# Altium footprint library Renesas Logic.PcbLib: 85 footprints (part 4 of 6)
Each footprint in its own frame and in the unit in brackets; x right, y up, seen from the top. Pads: shape width x height; smd on the part's side, far side on the other; paste and mask are expansions set on the pad; w line width, h text height; cw(c..) or ccw(c..) is an arc to the next point about the centre after c.
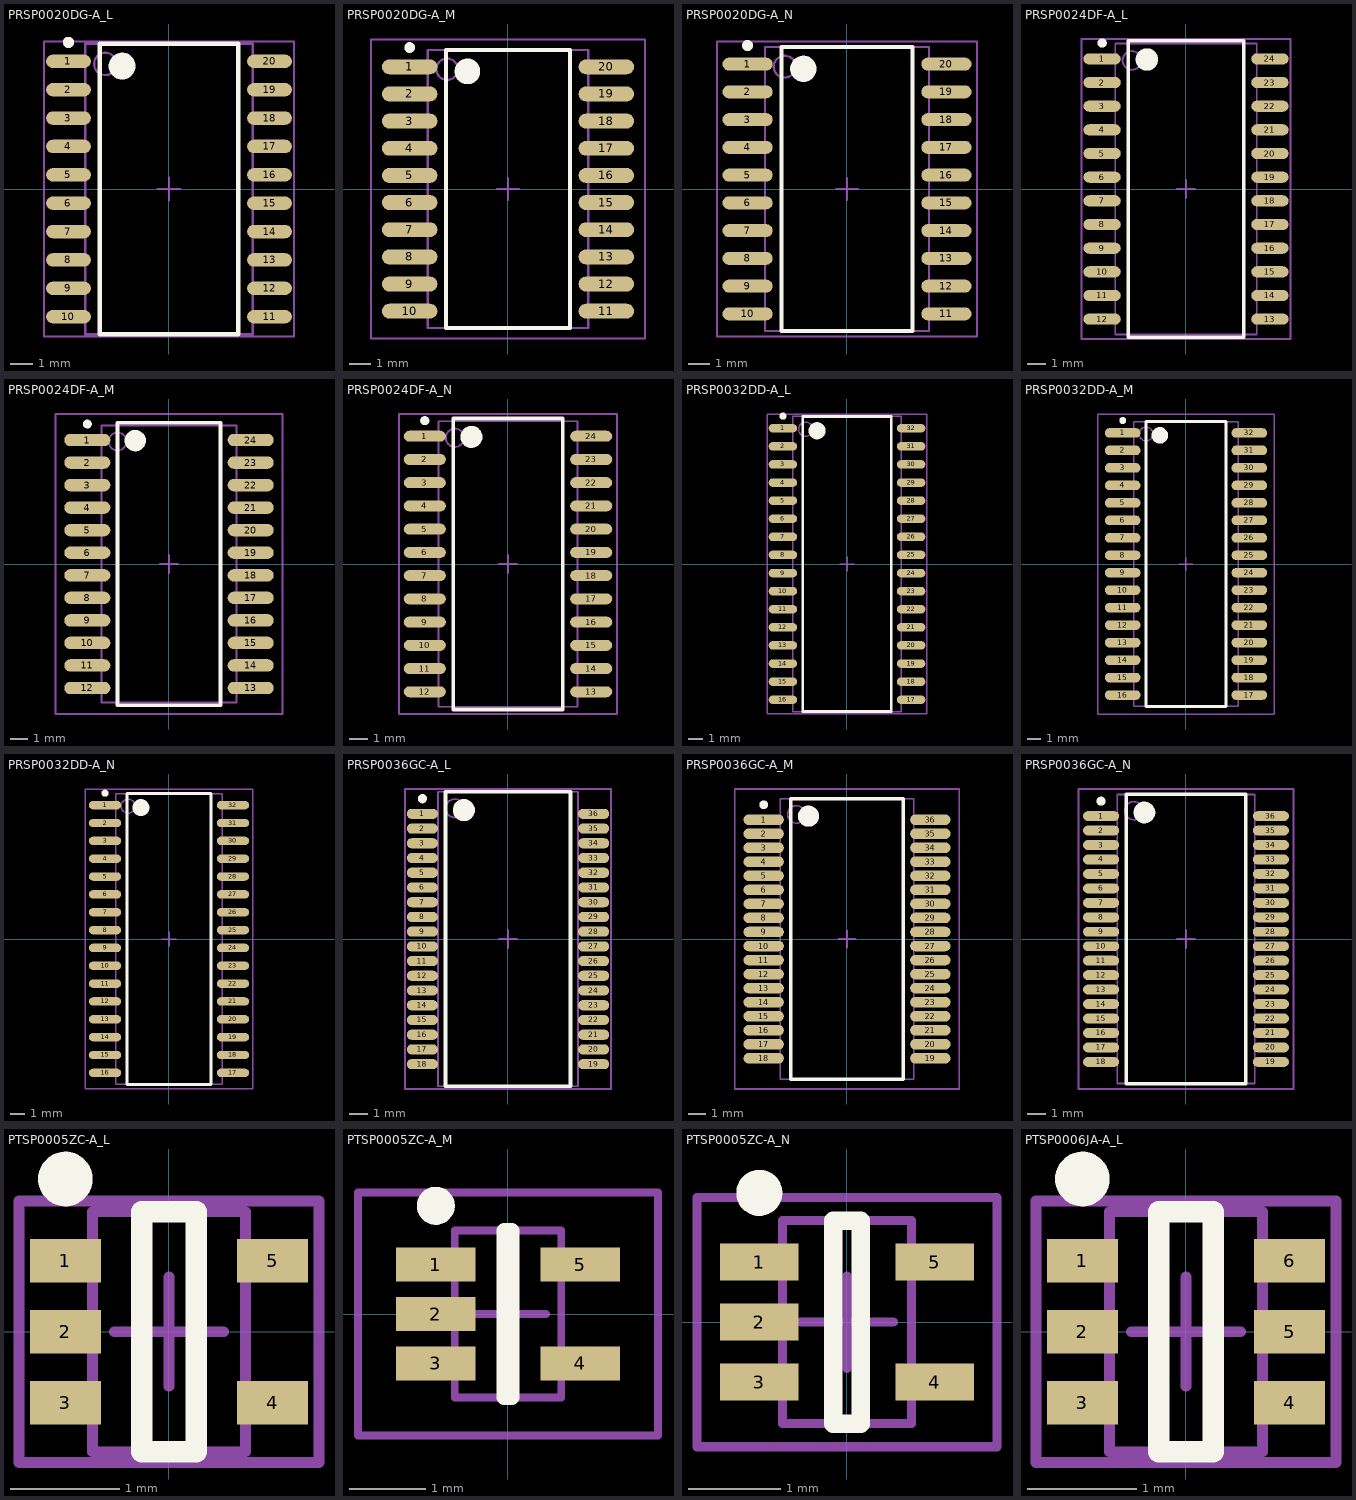
[diagram p3: the footprints below, top view; thin cyan lines are the x and y axes]

## PRSP0020DG-A_L [mm] "SOIC, 20-Leads, Body 12.8x7.5mm, Pitch 1.27mm, IPC High Density"
height 2.65
pads (20):
  oval 2x0.6 smd: 1(-4.5,5.715) 2(-4.5,4.445) 3(-4.5,3.175) 4(-4.5,1.905) 5(-4.5,0.635) 6(-4.5,-0.635) 7(-4.5,-1.905) 8(-4.5,-3.175) 9(-4.5,-4.445) 10(-4.5,-5.715) 11(4.5,-5.715) 12(4.5,-4.445) 13(4.5,-3.175) 14(4.5,-1.905) 15(4.5,-0.635) 16(4.5,0.635) 17(4.5,1.905) 18(4.5,3.175) 19(4.5,4.445) 20(4.5,5.715)
Top Overlay:
  circle w0.25: c-4.5,6.565 r0.125
  circle w0.6: c-2.1,5.5 r0.3
  lines w0.2: -3.1,-6.5 -3.1,6.5 3.1,6.5 3.1,-6.5 -3.1,-6.5
Mechanical 13:
  circle w0.1: c-2.85,5.6 r0.5
  lines w0.1: -3.75,-6.5 -3.75,6.5 3.75,6.5 3.75,-6.5 -3.75,-6.5
Mechanical 15:
  lines w0.1: -0.5,0 0.5,0 ; 0,-0.5 0,0.5 ; -5.6,-6.6 -5.6,6.6 5.6,6.6 5.6,-6.6 -5.6,-6.6
3D body: height 2.65, standoff 0, extent -3.75,-6.5 3.75,6.5

## PRSP0020DG-A_M [mm] "SOIC, 20-Leads, Body 12.8x7.5mm, Pitch 1.27mm, IPC Low Density"
height 2.65
pads (20):
  oval 2.6x0.7 smd: 1(-4.6,5.715) 2(-4.6,4.445) 3(-4.6,3.175) 4(-4.6,1.905) 5(-4.6,0.635) 6(-4.6,-0.635) 7(-4.6,-1.905) 8(-4.6,-3.175) 9(-4.6,-4.445) 10(-4.6,-5.715) 11(4.6,-5.715) 12(4.6,-4.445) 13(4.6,-3.175) 14(4.6,-1.905) 15(4.6,-0.635) 16(4.6,0.635) 17(4.6,1.905) 18(4.6,3.175) 19(4.6,4.445) 20(4.6,5.715)
Top Overlay:
  circle w0.25: c-4.6,6.615 r0.125
  circle w0.6: c-1.9,5.5 r0.3
  lines w0.2: -2.9,-6.5 -2.9,6.5 2.9,6.5 2.9,-6.5 -2.9,-6.5
Mechanical 13:
  circle w0.1: c-2.85,5.6 r0.5
  lines w0.1: -3.75,-6.5 -3.75,6.5 3.75,6.5 3.75,-6.5 -3.75,-6.5
Mechanical 15:
  lines w0.1: -0.5,0 0.5,0 ; 0,-0.5 0,0.5 ; -6.4,-7 -6.4,7 6.4,7 6.4,-7 -6.4,-7
3D body: height 2.65, standoff 0, extent -3.75,-6.5 3.75,6.5

## PRSP0020DG-A_N [mm] "SOIC, 20-Leads, Body 12.8x7.5mm, Pitch 1.27mm, IPC Medium Density"
height 2.65
pads (20):
  oval 2.3x0.6 smd: 1(-4.55,5.715) 2(-4.55,4.445) 3(-4.55,3.175) 4(-4.55,1.905) 5(-4.55,0.635) 6(-4.55,-0.635) 7(-4.55,-1.905) 8(-4.55,-3.175) 9(-4.55,-4.445) 10(-4.55,-5.715) 11(4.55,-5.715) 12(4.55,-4.445) 13(4.55,-3.175) 14(4.55,-1.905) 15(4.55,-0.635) 16(4.55,0.635) 17(4.55,1.905) 18(4.55,3.175) 19(4.55,4.445) 20(4.55,5.715)
Top Overlay:
  circle w0.25: c-4.55,6.565 r0.125
  circle w0.6: c-2,5.5 r0.3
  lines w0.2: -3,-6.5 -3,6.5 3,6.5 3,-6.5 -3,-6.5
Mechanical 13:
  circle w0.1: c-2.85,5.6 r0.5
  lines w0.1: -3.75,-6.5 -3.75,6.5 3.75,6.5 3.75,-6.5 -3.75,-6.5
Mechanical 15:
  lines w0.1: -0.5,0 0.5,0 ; 0,-0.5 0,0.5 ; -5.95,-6.75 -5.95,6.75 5.95,6.75 5.95,-6.75 -5.95,-6.75
3D body: height 2.65, standoff 0, extent -3.75,-6.5 3.75,6.5

## PRSP0024DF-A_L [mm] "SOIC, 24-Leads, Body 15.4x7.5mm, Pitch 1.27mm, IPC High Density"
height 2.65
pads (24):
  oval 2x0.6 smd: 1(-4.5,6.985) 2(-4.5,5.715) 3(-4.5,4.445) 4(-4.5,3.175) 5(-4.5,1.905) 6(-4.5,0.635) 7(-4.5,-0.635) 8(-4.5,-1.905) 9(-4.5,-3.175) 10(-4.5,-4.445) 11(-4.5,-5.715) 12(-4.5,-6.985) 13(4.5,-6.985) 14(4.5,-5.715) 15(4.5,-4.445) 16(4.5,-3.175) 17(4.5,-1.905) 18(4.5,-0.635) 19(4.5,0.635) 20(4.5,1.905) 21(4.5,3.175) 22(4.5,4.445) 23(4.5,5.715) 24(4.5,6.985)
Top Overlay:
  circle w0.25: c-4.5,7.835 r0.125
  circle w0.6: c-2.1,6.95 r0.3
  lines w0.2: -3.1,-7.95 -3.1,7.95 3.1,7.95 3.1,-7.95 -3.1,-7.95
Mechanical 13:
  circle w0.1: c-2.9,6.9 r0.5
  lines w0.1: -3.8,-7.8 -3.8,7.8 3.8,7.8 3.8,-7.8 -3.8,-7.8
Mechanical 15:
  lines w0.1: -0.5,0 0.5,0 ; 0,-0.5 0,0.5 ; -5.6,-8.05 -5.6,8.05 5.6,8.05 5.6,-8.05 -5.6,-8.05
3D body: height 2.65, standoff 0, extent -3.8,-7.8 3.8,7.8

## PRSP0024DF-A_M [mm] "SOIC, 24-Leads, Body 15.4x7.5mm, Pitch 1.27mm, IPC Low Density"
height 2.65
pads (24):
  oval 2.6x0.7 smd: 1(-4.6,6.985) 2(-4.6,5.715) 3(-4.6,4.445) 4(-4.6,3.175) 5(-4.6,1.905) 6(-4.6,0.635) 7(-4.6,-0.635) 8(-4.6,-1.905) 9(-4.6,-3.175) 10(-4.6,-4.445) 11(-4.6,-5.715) 12(-4.6,-6.985) 13(4.6,-6.985) 14(4.6,-5.715) 15(4.6,-4.445) 16(4.6,-3.175) 17(4.6,-1.905) 18(4.6,-0.635) 19(4.6,0.635) 20(4.6,1.905) 21(4.6,3.175) 22(4.6,4.445) 23(4.6,5.715) 24(4.6,6.985)
Top Overlay:
  circle w0.25: c-4.6,7.885 r0.125
  circle w0.6: c-1.9,6.95 r0.3
  lines w0.2: -2.9,-7.95 -2.9,7.95 2.9,7.95 2.9,-7.95 -2.9,-7.95
Mechanical 13:
  circle w0.1: c-2.9,6.9 r0.5
  lines w0.1: -3.8,-7.8 -3.8,7.8 3.8,7.8 3.8,-7.8 -3.8,-7.8
Mechanical 15:
  lines w0.1: -0.5,0 0.5,0 ; 0,-0.5 0,0.5 ; -6.4,-8.45 -6.4,8.45 6.4,8.45 6.4,-8.45 -6.4,-8.45
3D body: height 2.65, standoff 0, extent -3.8,-7.8 3.8,7.8

## PRSP0024DF-A_N [mm] "SOIC, 24-Leads, Body 15.4x7.5mm, Pitch 1.27mm, IPC Medium Density"
height 2.65
pads (24):
  oval 2.3x0.6 smd: 1(-4.55,6.985) 2(-4.55,5.715) 3(-4.55,4.445) 4(-4.55,3.175) 5(-4.55,1.905) 6(-4.55,0.635) 7(-4.55,-0.635) 8(-4.55,-1.905) 9(-4.55,-3.175) 10(-4.55,-4.445) 11(-4.55,-5.715) 12(-4.55,-6.985) 13(4.55,-6.985) 14(4.55,-5.715) 15(4.55,-4.445) 16(4.55,-3.175) 17(4.55,-1.905) 18(4.55,-0.635) 19(4.55,0.635) 20(4.55,1.905) 21(4.55,3.175) 22(4.55,4.445) 23(4.55,5.715) 24(4.55,6.985)
Top Overlay:
  circle w0.25: c-4.55,7.835 r0.125
  circle w0.6: c-2,6.95 r0.3
  lines w0.2: -3,-7.95 -3,7.95 3,7.95 3,-7.95 -3,-7.95
Mechanical 13:
  circle w0.1: c-2.9,6.9 r0.5
  lines w0.1: -3.8,-7.8 -3.8,7.8 3.8,7.8 3.8,-7.8 -3.8,-7.8
Mechanical 15:
  lines w0.1: -0.5,0 0.5,0 ; 0,-0.5 0,0.5 ; -5.95,-8.2 -5.95,8.2 5.95,8.2 5.95,-8.2 -5.95,-8.2
3D body: height 2.65, standoff 0, extent -3.8,-7.8 3.8,7.8

## PRSP0032DD-A_L [mm] "SOIC, 32-Leads, Body 20.5x7.5mm, Pitch 1.27mm, IPC High Density"
height 2.7
pads (32):
  oval 2x0.6 smd: 1(-4.5,9.525) 2(-4.5,8.255) 3(-4.5,6.985) 4(-4.5,5.715) 5(-4.5,4.445) 6(-4.5,3.175) 7(-4.5,1.905) 8(-4.5,0.635) 9(-4.5,-0.635) 10(-4.5,-1.905) 11(-4.5,-3.175) 12(-4.5,-4.445) 13(-4.5,-5.715) 14(-4.5,-6.985) 15(-4.5,-8.255) 16(-4.5,-9.525) 17(4.5,-9.525) 18(4.5,-8.255) 19(4.5,-6.985) 20(4.5,-5.715) 21(4.5,-4.445) 22(4.5,-3.175) 23(4.5,-1.905) 24(4.5,-0.635) 25(4.5,0.635) 26(4.5,1.905) 27(4.5,3.175) 28(4.5,4.445) 29(4.5,5.715) 30(4.5,6.985) 31(4.5,8.255) 32(4.5,9.525)
Top Overlay:
  circle w0.6: c-2.1,9.35 r0.3
  circle w0.25: c-4.5,10.375 r0.125
  lines w0.2: -3.1,-10.35 3.1,-10.35 3.1,10.35 -3.1,10.35 -3.1,-10.35
Mechanical 13:
  circle w0.1: c-2.9,9.45 r0.5
  lines w0.1: -3.8,-10.35 3.8,-10.35 3.8,10.35 -3.8,10.35 -3.8,-10.35
Mechanical 15:
  lines w0.1: -0.5,0 0.5,0 ; 0,-0.5 0,0.5 ; -5.6,-10.5 5.6,-10.5 5.6,10.5 -5.6,10.5 -5.6,-10.5
3D body: height 2.7, standoff 0.1, extent -3.8,-10.35 3.8,10.35

## PRSP0032DD-A_M [mm] "SOIC, 32-Leads, Body 20.5x7.5mm, Pitch 1.27mm, IPC Low Density"
height 2.7
pads (32):
  oval 2.6x0.7 smd: 1(-4.6,9.525) 2(-4.6,8.255) 3(-4.6,6.985) 4(-4.6,5.715) 5(-4.6,4.445) 6(-4.6,3.175) 7(-4.6,1.905) 8(-4.6,0.635) 9(-4.6,-0.635) 10(-4.6,-1.905) 11(-4.6,-3.175) 12(-4.6,-4.445) 13(-4.6,-5.715) 14(-4.6,-6.985) 15(-4.6,-8.255) 16(-4.6,-9.525) 17(4.6,-9.525) 18(4.6,-8.255) 19(4.6,-6.985) 20(4.6,-5.715) 21(4.6,-4.445) 22(4.6,-3.175) 23(4.6,-1.905) 24(4.6,-0.635) 25(4.6,0.635) 26(4.6,1.905) 27(4.6,3.175) 28(4.6,4.445) 29(4.6,5.715) 30(4.6,6.985) 31(4.6,8.255) 32(4.6,9.525)
Top Overlay:
  circle w0.6: c-1.9,9.35 r0.3
  circle w0.25: c-4.6,10.425 r0.125
  lines w0.2: -2.9,-10.35 2.9,-10.35 2.9,10.35 -2.9,10.35 -2.9,-10.35
Mechanical 13:
  circle w0.1: c-2.9,9.45 r0.5
  lines w0.1: -3.8,-10.35 3.8,-10.35 3.8,10.35 -3.8,10.35 -3.8,-10.35
Mechanical 15:
  lines w0.1: -0.5,0 0.5,0 ; 0,-0.5 0,0.5 ; -6.4,-10.9 6.4,-10.9 6.4,10.9 -6.4,10.9 -6.4,-10.9
3D body: height 2.7, standoff 0.1, extent -3.8,-10.35 3.8,10.35

## PRSP0032DD-A_N [mm] "SOIC, 32-Leads, Body 20.5x7.5mm, Pitch 1.27mm, IPC Medium Density"
height 2.7
pads (32):
  oval 2.3x0.6 smd: 1(-4.55,9.525) 2(-4.55,8.255) 3(-4.55,6.985) 4(-4.55,5.715) 5(-4.55,4.445) 6(-4.55,3.175) 7(-4.55,1.905) 8(-4.55,0.635) 9(-4.55,-0.635) 10(-4.55,-1.905) 11(-4.55,-3.175) 12(-4.55,-4.445) 13(-4.55,-5.715) 14(-4.55,-6.985) 15(-4.55,-8.255) 16(-4.55,-9.525) 17(4.55,-9.525) 18(4.55,-8.255) 19(4.55,-6.985) 20(4.55,-5.715) 21(4.55,-4.445) 22(4.55,-3.175) 23(4.55,-1.905) 24(4.55,-0.635) 25(4.55,0.635) 26(4.55,1.905) 27(4.55,3.175) 28(4.55,4.445) 29(4.55,5.715) 30(4.55,6.985) 31(4.55,8.255) 32(4.55,9.525)
Top Overlay:
  circle w0.6: c-2,9.35 r0.3
  circle w0.25: c-4.55,10.375 r0.125
  lines w0.2: -3,-10.35 3,-10.35 3,10.35 -3,10.35 -3,-10.35
Mechanical 13:
  circle w0.1: c-2.9,9.45 r0.5
  lines w0.1: -3.8,-10.35 3.8,-10.35 3.8,10.35 -3.8,10.35 -3.8,-10.35
Mechanical 15:
  lines w0.1: -0.5,0 0.5,0 ; 0,-0.5 0,0.5 ; -5.95,-10.65 5.95,-10.65 5.95,10.65 -5.95,10.65 -5.95,-10.65
3D body: height 2.7, standoff 0.1, extent -3.8,-10.35 3.8,10.35

## PRSP0036GC-A_L [mm] "SOP, 36-Leads, Body 15.88x7.49mm, Pitch 0.8mm, IPC High Density"
height 2.79
pads (36):
  oval 1.7x0.55 smd: 1(-4.65,6.8) 2(-4.65,6) 3(-4.65,5.2) 4(-4.65,4.4) 5(-4.65,3.6) 6(-4.65,2.8) 7(-4.65,2) 8(-4.65,1.2) 9(-4.65,0.4) 10(-4.65,-0.4) 11(-4.65,-1.2) 12(-4.65,-2) 13(-4.65,-2.8) 14(-4.65,-3.6) 15(-4.65,-4.4) 16(-4.65,-5.2) 17(-4.65,-6) 18(-4.65,-6.8) 19(4.65,-6.8) 20(4.65,-6) 21(4.65,-5.2) 22(4.65,-4.4) 23(4.65,-3.6) 24(4.65,-2.8) 25(4.65,-2) 26(4.65,-1.2) 27(4.65,-0.4) 28(4.65,0.4) 29(4.65,1.2) 30(4.65,2) 31(4.65,2.8) 32(4.65,3.6) 33(4.65,4.4) 34(4.65,5.2) 35(4.65,6) 36(4.65,6.8)
Top Overlay:
  circle w0.6: c-2.4,7 r0.3
  circle w0.25: c-4.65,7.625 r0.125
  lines w0.2: -3.4,-8 3.4,-8 3.4,8 -3.4,8 -3.4,-8
Mechanical 13:
  circle w0.1: c-2.885,7.1 r0.5
  lines w0.1: -3.8,-8 3.8,-8 3.8,8 -3.8,8 -3.8,-8
Mechanical 15:
  lines w0.1: -0.5,0 0.5,0 ; 0,-0.5 0,0.5 ; -5.6,-8.15 5.6,-8.15 5.6,8.15 -5.6,8.15 -5.6,-8.15
3D body: height 2.79, standoff 0.2, extent -3.799,-7.999 3.799,7.999

## PRSP0036GC-A_M [mm] "SOP, 36-Leads, Body 15.88x7.49mm, Pitch 0.8mm, IPC Low Density"
height 2.79
pads (36):
  oval 2.3x0.6 smd: 1(-4.75,6.8) 2(-4.75,6) 3(-4.75,5.2) 4(-4.75,4.4) 5(-4.75,3.6) 6(-4.75,2.8) 7(-4.75,2) 8(-4.75,1.2) 9(-4.75,0.4) 10(-4.75,-0.4) 11(-4.75,-1.2) 12(-4.75,-2) 13(-4.75,-2.8) 14(-4.75,-3.6) 15(-4.75,-4.4) 16(-4.75,-5.2) 17(-4.75,-6) 18(-4.75,-6.8) 19(4.75,-6.8) 20(4.75,-6) 21(4.75,-5.2) 22(4.75,-4.4) 23(4.75,-3.6) 24(4.75,-2.8) 25(4.75,-2) 26(4.75,-1.2) 27(4.75,-0.4) 28(4.75,0.4) 29(4.75,1.2) 30(4.75,2) 31(4.75,2.8) 32(4.75,3.6) 33(4.75,4.4) 34(4.75,5.2) 35(4.75,6) 36(4.75,6.8)
Top Overlay:
  circle w0.25: c-4.75,7.65 r0.125
  circle w0.6: c-2.2,7 r0.3
  lines w0.2: -3.2,-8 -3.2,8 3.2,8 3.2,-8 -3.2,-8
Mechanical 13:
  circle w0.1: c-2.885,7.1 r0.5
  lines w0.1: -3.8,-8 -3.8,8 3.8,8 3.8,-8 -3.8,-8
Mechanical 15:
  lines w0.1: -0.5,0 0.5,0 ; 0,-0.5 0,0.5 ; -6.4,-8.55 -6.4,8.55 6.4,8.55 6.4,-8.55 -6.4,-8.55
3D body: height 2.79, standoff 0.2, extent -3.799,-7.999 3.799,7.999

## PRSP0036GC-A_N [mm] "SOP, 36-Leads, Body 15.88x7.49mm, Pitch 0.8mm, IPC Medium Density"
height 2.79
pads (36):
  oval 2x0.55 smd: 1(-4.7,6.8) 2(-4.7,6) 3(-4.7,5.2) 4(-4.7,4.4) 5(-4.7,3.6) 6(-4.7,2.8) 7(-4.7,2) 8(-4.7,1.2) 9(-4.7,0.4) 10(-4.7,-0.4) 11(-4.7,-1.2) 12(-4.7,-2) 13(-4.7,-2.8) 14(-4.7,-3.6) 15(-4.7,-4.4) 16(-4.7,-5.2) 17(-4.7,-6) 18(-4.7,-6.8) 19(4.7,-6.8) 20(4.7,-6) 21(4.7,-5.2) 22(4.7,-4.4) 23(4.7,-3.6) 24(4.7,-2.8) 25(4.7,-2) 26(4.7,-1.2) 27(4.7,-0.4) 28(4.7,0.4) 29(4.7,1.2) 30(4.7,2) 31(4.7,2.8) 32(4.7,3.6) 33(4.7,4.4) 34(4.7,5.2) 35(4.7,6) 36(4.7,6.8)
Top Overlay:
  circle w0.25: c-4.7,7.625 r0.125
  circle w0.6: c-2.3,7 r0.3
  lines w0.2: -3.3,-8 -3.3,8 3.3,8 3.3,-8 -3.3,-8
Mechanical 13:
  circle w0.1: c-2.885,7.1 r0.5
  lines w0.1: -3.8,-8 3.8,-8 3.8,8 -3.8,8 -3.8,-8
Mechanical 15:
  lines w0.1: -0.5,0 0.5,0 ; 0,-0.5 0,0.5 ; -5.95,-8.3 -5.95,8.3 5.95,8.3 5.95,-8.3 -5.95,-8.3
3D body: height 2.79, standoff 0.2, extent -3.799,-7.999 3.799,7.999

## PTSP0005ZC-A_L [mm] "SOT353, 5-Leads, Body 2x1.3mm, Pitch 0.65mm, Lead Span 2.1mm, IPC High Density"
height 1.1
pads (5):
  rect 0.65x0.4 smd: 1(-0.95,0.65) 2(-0.95,0) 3(-0.95,-0.65) 4(0.95,-0.65) 5(0.95,0.65)
Top Overlay:
  circle w0.25: c-0.95,1.4 r0.125
  lines w0.2: -0.25,-1.1 0.25,-1.1 0.25,1.1 -0.25,1.1 -0.25,-1.1
Mechanical 13:
  lines w0.1: -0.7,-1.1 -0.7,1.1 0.7,1.1 0.7,-1.1 -0.7,-1.1
Mechanical 15:
  lines w0.1: -0.5,0 0.5,0 ; 0,-0.5 0,0.5 ; -1.375,-1.2 -1.375,1.2 1.375,1.2 1.375,-1.2 -1.375,-1.2
3D body: height 1.1, standoff 0, extent -0.7,-1.1 0.7,1.1

## PTSP0005ZC-A_M [mm] "SOT353, 5-Leads, Body 2x1.3mm, Pitch 0.65mm, Lead Span 2.1mm, IPC Low Density"
height 1.1
pads (5):
  rect 1.05x0.45 smd: 1(-0.95,0.65) 2(-0.95,0) 3(-0.95,-0.65) 4(0.95,-0.65) 5(0.95,0.65)
Top Overlay:
  circle w0.25: c-0.95,1.425 r0.125
  lines w0.2: -0.05,-1.1 -0.05,1.1 0.05,1.1 0.05,-1.1 -0.05,-1.1
Mechanical 13:
  lines w0.1: -0.7,-1.1 0.7,-1.1 0.7,1.1 -0.7,1.1 -0.7,-1.1
Mechanical 15:
  lines w0.1: -0.5,0 0.5,0 ; 0,-0.5 0,0.5 ; -1.975,-1.6 1.975,-1.6 1.975,1.6 -1.975,1.6 -1.975,-1.6
3D body: height 1.1, standoff 0, extent -0.7,-1.1 0.7,1.1

## PTSP0005ZC-A_N [mm] "SOT353, 5-Leads, Body 2x1.3mm, Pitch 0.65mm, Lead Span 2.1mm, IPC Medium Density"
height 1.1
pads (5):
  rect 0.85x0.4 smd: 1(-0.95,0.65) 2(-0.95,0) 3(-0.95,-0.65) 4(0.95,-0.65) 5(0.95,0.65)
Top Overlay:
  circle w0.25: c-0.95,1.4 r0.125
  lines w0.2: -0.15,-1.1 0.15,-1.1 0.15,1.1 -0.15,1.1 -0.15,-1.1
Mechanical 13:
  lines w0.1: -0.7,-1.1 -0.7,1.1 0.7,1.1 0.7,-1.1 -0.7,-1.1
Mechanical 15:
  lines w0.1: -0.5,0 0.5,0 ; 0,-0.5 0,0.5 ; -1.625,-1.35 -1.625,1.35 1.625,1.35 1.625,-1.35 -1.625,-1.35
3D body: height 1.1, standoff 0, extent -0.7,-1.1 0.7,1.1

## PTSP0006JA-A_L [mm] "SOT363, 6-Leads, Body 2x1.3mm, Pitch 0.65mm, Lead Span 2.1mm, IPC High Density"
height 1.1
pads (6):
  rect 0.65x0.4 smd: 1(-0.95,0.65) 2(-0.95,0) 3(-0.95,-0.65) 4(0.95,-0.65) 5(0.95,0) 6(0.95,0.65)
Top Overlay:
  circle w0.25: c-0.95,1.4 r0.125
  lines w0.2: -0.25,-1.1 -0.25,1.1 0.25,1.1 0.25,-1.1 -0.25,-1.1
Mechanical 13:
  lines w0.1: -0.7,-1.1 0.7,-1.1 0.7,1.1 -0.7,1.1 -0.7,-1.1
Mechanical 15:
  lines w0.1: -0.5,0 0.5,0 ; 0,-0.5 0,0.5 ; -1.375,-1.2 1.375,-1.2 1.375,1.2 -1.375,1.2 -1.375,-1.2
3D body: height 1.1, standoff 0, extent -0.7,-1.1 0.7,1.1